# Altium footprint library PcbLib1.PcbLib: 3 footprints
Each footprint in its own frame and in the unit in brackets; x right, y up, seen from the top. Pads: shape width x height; smd on the part's side, far side on the other; paste and mask are expansions set on the pad; w line width, h text height; cw(c..) or ccw(c..) is an arc to the next point about the centre after c.
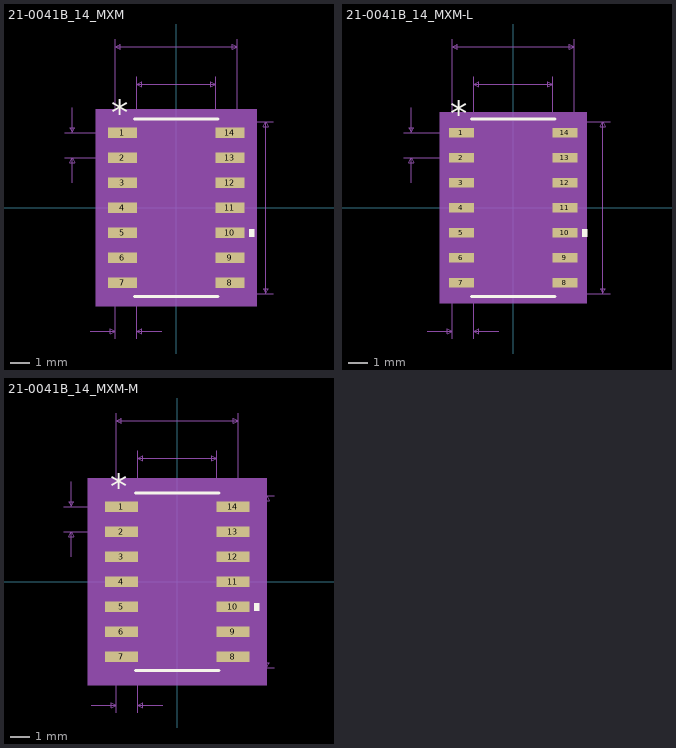
[diagram p0: the footprints below, top view; thin cyan lines are the x and y axes]

## 21-0041B_14_MXM [mil]
pads (14):
  rect 57.5x21 smd paste+0 mask+0: 1(-107.25,150) 2(-107.25,100) 3(-107.25,50) 4(-107.25,0) 5(-107.25,-50) 6(-107.25,-100) 7(-107.25,-150) 8(107.25,-150) 9(107.25,-100) 10(107.25,-50) 11(107.25,0) 12(107.25,50) 13(107.25,100) 14(107.25,150)
Top Overlay:
  region: 146,-42.5 156,-42.5 156,-57.5 146,-57.5
  lines w6: -83.5,-177 83.5,-177 ; -83.5,177 83.5,177
  text "*" at -129.75,166 h50
Mechanical 5:
  region: 161,-197 -161,-197 -161,197 161,197
Mechanical 7:
  lines w1: -222.25,100 -107.25,100 ; -222.25,150 -107.25,150 ; -207.25,50 -207.25,100 ; -207.25,200 -207.25,150 ; -172,-247 -122,-247 ; -122,-262 -122,0 -122,337 ; -78.5,-262 -78.5,0 -78.5,262 ; -28.5,-247 -78.5,-247 ; 0,-172 193.5,-172 ; 0,172 193.5,172 ; 78.5,0 78.5,262 ; 122,0 122,337 ; -207.25,100 -202.25,90 -212.25,90 -207.25,100 ; -207.25,150 -202.25,160 -212.25,160 -207.25,150 ; -122,-247 -132,-252 -132,-242 -122,-247 ; -122,322 -112,317 -112,327 -122,322 ; -122,322 122,322 ; -78.5,-247 -68.5,-252 -68.5,-242 -78.5,-247 ; -78.5,247 -68.5,242 -68.5,252 -78.5,247 ; -78.5,247 78.5,247 ; 78.5,247 68.5,242 68.5,252 78.5,247 ; 122,322 112,317 112,327 122,322 ; 178.5,-172 183.5,-162 173.5,-162 178.5,-172 ; 178.5,-172 178.5,172 ; 178.5,172 183.5,162 173.5,162 178.5,172
  text "0.05in/1.27mm" at -181.5,-292 h25
  text "0.05in/1.27mm" at -389.75,112.5 h25
  text "0.344in/8.738mm" at 198.5,-12.5 h25
  text "0.244in/6.198mm" at -93.75,342 h25
  text "0.157in/3.988mm" at -93.75,267 h25
  text "Alt 2 Padstyle: OX90Y60D30P" at -337.5,-672 h50
  text "Alt 1 Padstyle: OX60Y90D30P" at -337.5,-612 h50
  text "Pin One Padstyle: RX57p5Y21D0T" at -375,-432 h50
  text "Default Padstyle: RX57p5Y21D0T" at -375,-372 h50
Mechanical 13:
  lines w0: -12,172 ccw(c0,172) 12,172
  lines w1: -122,-159.5 -78.5,-159.5 -78.5,-140.5 -122,-140.5 -122,-159.5 ; -122,-109.5 -78.5,-109.5 -78.5,-90.5 -122,-90.5 -122,-109.5 ; -122,-59.5 -78.5,-59.5 -78.5,-40.5 -122,-40.5 -122,-59.5 ; -122,-9.5 -78.5,-9.5 -78.5,9.5 -122,9.5 -122,-9.5 ; -122,40.5 -78.5,40.5 -78.5,59.5 -122,59.5 -122,40.5 ; -122,90.5 -78.5,90.5 -78.5,109.5 -122,109.5 -122,90.5 ; -122,140.5 -78.5,140.5 -78.5,159.5 -122,159.5 -122,140.5 ; -78.5,-172 -78.5,172 78.5,172 78.5,-172 -78.5,-172 ; 78.5,-159.5 122,-159.5 122,-140.5 78.5,-140.5 78.5,-159.5 ; 78.5,-109.5 122,-109.5 122,-90.5 78.5,-90.5 78.5,-109.5 ; 78.5,-59.5 122,-59.5 122,-40.5 78.5,-40.5 78.5,-59.5 ; 78.5,-9.5 122,-9.5 122,9.5 78.5,9.5 78.5,-9.5 ; 78.5,40.5 122,40.5 122,59.5 78.5,59.5 78.5,40.5 ; 78.5,90.5 122,90.5 122,109.5 78.5,109.5 78.5,90.5 ; 78.5,140.5 122,140.5 122,159.5 78.5,159.5 78.5,140.5
  text "*" at -76,119 h50
Mechanical 15:
  region: -88.5,-170.5 -146,-170.5 -146,170.5 -88.5,170.5 -88.5,182 88.5,182 88.5,170.5 146,170.5 146,-170.5 88.5,-170.5 88.5,-182 -88.5,-182
  lines w6: -146,-170.5 -88.5,-170.5 -88.5,-182 88.5,-182 88.5,-170.5 146,-170.5 146,170.5 88.5,170.5 88.5,182 -88.5,182 -88.5,170.5 -146,170.5 -146,-170.5
3D body "21-0041B_14_MXM.step": height 69.09, standoff 0, extent -122.01,-172.01 122.01,172
3D body: height 10, standoff 0, extent 0,0 10,10

## 21-0041B_14_MXM-L [mil]
pads (14):
  rect 49.5x19 smd paste+0 mask+0: 1(-103.25,150) 2(-103.25,100) 3(-103.25,50) 4(-103.25,0) 5(-103.25,-50) 6(-103.25,-100) 7(-103.25,-150) 8(103.25,-150) 9(103.25,-100) 10(103.25,-50) 11(103.25,0) 12(103.25,50) 13(103.25,100) 14(103.25,150)
Top Overlay:
  region: 138,-42.5 148,-42.5 148,-57.5 138,-57.5
  lines w6: -83.5,-177 83.5,-177 ; -83.5,177 83.5,177
  text "*" at -125.75,164 h50
Mechanical 5:
  region: 147,-191 -147,-191 -147,191 147,191
Mechanical 7:
  lines w1: -218.25,100 -103.25,100 ; -218.25,150 -103.25,150 ; -203.25,50 -203.25,100 ; -203.25,200 -203.25,150 ; -172,-247 -122,-247 ; -122,-262 -122,0 -122,337 ; -78.5,-262 -78.5,0 -78.5,262 ; -28.5,-247 -78.5,-247 ; 0,-172 193.5,-172 ; 0,172 193.5,172 ; 78.5,0 78.5,262 ; 122,0 122,337 ; -203.25,100 -208.25,90 -198.25,90 -203.25,100 ; -203.25,150 -208.25,160 -198.25,160 -203.25,150 ; -122,-247 -132,-242 -132,-252 -122,-247 ; -122,322 122,322 ; -122,322 -112,327 -112,317 -122,322 ; -78.5,-247 -68.5,-242 -68.5,-252 -78.5,-247 ; -78.5,247 78.5,247 ; -78.5,247 -68.5,252 -68.5,242 -78.5,247 ; 78.5,247 68.5,252 68.5,242 78.5,247 ; 122,322 112,327 112,317 122,322 ; 178.5,-172 178.5,172 ; 178.5,-172 173.5,-162 183.5,-162 178.5,-172 ; 178.5,172 173.5,162 183.5,162 178.5,172
  text "Default Padstyle: RX49p5Y19D0T" at -375,-372 h50
  text "Pin One Padstyle: RX49p5Y19D0T" at -375,-432 h50
  text "Alt 1 Padstyle: OX60Y90D30P" at -337.5,-612 h50
  text "Alt 2 Padstyle: OX90Y60D30P" at -337.5,-672 h50
  text "0.157in/3.988mm" at -93.75,267 h25
  text "0.244in/6.198mm" at -93.75,342 h25
  text "0.344in/8.738mm" at 198.5,-12.5 h25
  text "0.05in/1.27mm" at -385.75,112.5 h25
  text "0.05in/1.27mm" at -181.5,-292 h25
Mechanical 13:
  lines w0: -12,172 ccw(c0,172) 12,172
  lines w1: -122,-159.5 -122,-140.5 -78.5,-140.5 -78.5,-159.5 -122,-159.5 ; -122,-109.5 -122,-90.5 -78.5,-90.5 -78.5,-109.5 -122,-109.5 ; -122,-59.5 -122,-40.5 -78.5,-40.5 -78.5,-59.5 -122,-59.5 ; -122,-9.5 -122,9.5 -78.5,9.5 -78.5,-9.5 -122,-9.5 ; -122,40.5 -122,59.5 -78.5,59.5 -78.5,40.5 -122,40.5 ; -122,90.5 -122,109.5 -78.5,109.5 -78.5,90.5 -122,90.5 ; -122,140.5 -122,159.5 -78.5,159.5 -78.5,140.5 -122,140.5 ; -78.5,-172 78.5,-172 78.5,172 -78.5,172 -78.5,-172 ; 78.5,-159.5 78.5,-140.5 122,-140.5 122,-159.5 78.5,-159.5 ; 78.5,-109.5 78.5,-90.5 122,-90.5 122,-109.5 78.5,-109.5 ; 78.5,-59.5 78.5,-40.5 122,-40.5 122,-59.5 78.5,-59.5 ; 78.5,-9.5 78.5,9.5 122,9.5 122,-9.5 78.5,-9.5 ; 78.5,40.5 78.5,59.5 122,59.5 122,40.5 78.5,40.5 ; 78.5,90.5 78.5,109.5 122,109.5 122,90.5 78.5,90.5 ; 78.5,140.5 78.5,159.5 122,159.5 122,140.5 78.5,140.5
  text "*" at -76,119 h50
Mechanical 15:
  region: -82.5,-163.5 -132,-163.5 -132,163.5 -82.5,163.5 -82.5,176 82.5,176 82.5,163.5 132,163.5 132,-163.5 82.5,-163.5 82.5,-176 -82.5,-176
  lines w6: -132,-163.5 -132,163.5 -82.5,163.5 -82.5,176 82.5,176 82.5,163.5 132,163.5 132,-163.5 82.5,-163.5 82.5,-176 -82.5,-176 -82.5,-163.5 -132,-163.5
3D body "21-0041B_14_MXM.step": height 69.09, standoff 0, extent -122.01,-172.01 122.01,172.01
3D body: height 10, standoff 0, extent 0,0 10,10

## 21-0041B_14_MXM-M [mil]
pads (14):
  rect 65.5x21 smd paste+0 mask+0: 1(-111.25,150) 2(-111.25,100) 3(-111.25,50) 4(-111.25,0) 5(-111.25,-50) 6(-111.25,-100) 7(-111.25,-150) 8(111.25,-150) 9(111.25,-100) 10(111.25,-50) 11(111.25,0) 12(111.25,50) 13(111.25,100) 14(111.25,150)
Top Overlay:
  region: 154,-42.5 164,-42.5 164,-57.5 154,-57.5
  lines w6: -83.5,-177 83.5,-177 ; -83.5,177 83.5,177
  text "*" at -133.75,166 h50
Mechanical 5:
  region: 179,-207 -179,-207 -179,207 179,207
Mechanical 7:
  lines w1: -226.25,100 -111.25,100 ; -226.25,150 -111.25,150 ; -211.25,50 -211.25,100 ; -211.25,200 -211.25,150 ; -172,-247 -122,-247 ; -122,-262 -122,0 -122,337 ; -78.5,-262 -78.5,0 -78.5,262 ; -28.5,-247 -78.5,-247 ; 0,-172 193.5,-172 ; 0,172 193.5,172 ; 78.5,0 78.5,262 ; 122,0 122,337 ; -211.25,100 -206.25,90 -216.25,90 -211.25,100 ; -211.25,150 -206.25,160 -216.25,160 -211.25,150 ; -122,-247 -132,-252 -132,-242 -122,-247 ; -122,322 -112,317 -112,327 -122,322 ; -122,322 122,322 ; -78.5,-247 -68.5,-252 -68.5,-242 -78.5,-247 ; -78.5,247 -68.5,242 -68.5,252 -78.5,247 ; -78.5,247 78.5,247 ; 78.5,247 68.5,242 68.5,252 78.5,247 ; 122,322 112,317 112,327 122,322 ; 178.5,-172 183.5,-162 173.5,-162 178.5,-172 ; 178.5,-172 178.5,172 ; 178.5,172 183.5,162 173.5,162 178.5,172
  text "0.05in/1.27mm" at -181.5,-292 h25
  text "0.05in/1.27mm" at -393.75,112.5 h25
  text "0.344in/8.738mm" at 198.5,-12.5 h25
  text "0.244in/6.198mm" at -93.75,342 h25
  text "0.157in/3.988mm" at -93.75,267 h25
  text "Alt 2 Padstyle: OX90Y60D30P" at -337.5,-672 h50
  text "Alt 1 Padstyle: OX60Y90D30P" at -337.5,-612 h50
  text "Pin One Padstyle: RX65p5Y21D0T" at -375,-432 h50
  text "Default Padstyle: RX65p5Y21D0T" at -375,-372 h50
Mechanical 13:
  lines w0: -12,172 ccw(c0,172) 12,172
  lines w1: -122,-159.5 -78.5,-159.5 -78.5,-140.5 -122,-140.5 -122,-159.5 ; -122,-109.5 -78.5,-109.5 -78.5,-90.5 -122,-90.5 -122,-109.5 ; -122,-59.5 -78.5,-59.5 -78.5,-40.5 -122,-40.5 -122,-59.5 ; -122,-9.5 -78.5,-9.5 -78.5,9.5 -122,9.5 -122,-9.5 ; -122,40.5 -78.5,40.5 -78.5,59.5 -122,59.5 -122,40.5 ; -122,90.5 -78.5,90.5 -78.5,109.5 -122,109.5 -122,90.5 ; -122,140.5 -78.5,140.5 -78.5,159.5 -122,159.5 -122,140.5 ; -78.5,-172 -78.5,172 78.5,172 78.5,-172 -78.5,-172 ; 78.5,-159.5 122,-159.5 122,-140.5 78.5,-140.5 78.5,-159.5 ; 78.5,-109.5 122,-109.5 122,-90.5 78.5,-90.5 78.5,-109.5 ; 78.5,-59.5 122,-59.5 122,-40.5 78.5,-40.5 78.5,-59.5 ; 78.5,-9.5 122,-9.5 122,9.5 78.5,9.5 78.5,-9.5 ; 78.5,40.5 122,40.5 122,59.5 78.5,59.5 78.5,40.5 ; 78.5,90.5 122,90.5 122,109.5 78.5,109.5 78.5,90.5 ; 78.5,140.5 122,140.5 122,159.5 78.5,159.5 78.5,140.5
  text "*" at -76,119 h50
Mechanical 15:
  region: -98.5,-180.5 -164,-180.5 -164,180.5 -98.5,180.5 -98.5,192 98.5,192 98.5,180.5 164,180.5 164,-180.5 98.5,-180.5 98.5,-192 -98.5,-192
  lines w6: -164,-180.5 -98.5,-180.5 -98.5,-192 98.5,-192 98.5,-180.5 164,-180.5 164,180.5 98.5,180.5 98.5,192 -98.5,192 -98.5,180.5 -164,180.5 -164,-180.5
3D body "21-0041B_14_MXM.step": height 69.09, standoff 0, extent -122.01,-172 122,172.01
3D body: height 10, standoff 0, extent 0,0 10,10